# EAGLE library part MM74HC4316M (library Fairchild_By_element14_Batch_1)
Quad Analog Switch with Level Translator
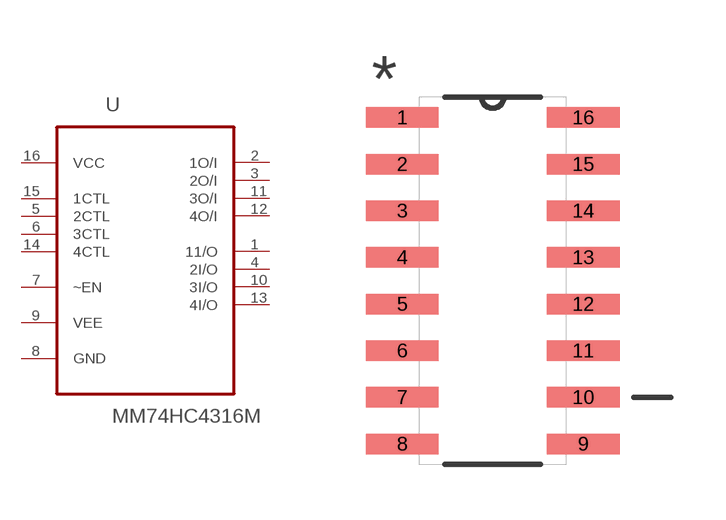
[diagram p290: symbol with the pads of SOIC127P600X175-16N; footprint SOIC127P600X175-16N]

Designator prefix U

## MM74HC4316M (MPN: MM74HC4316M; OC_FARNELL: 1013868; OC_NEWARK: -; PACKAGE: SOIC-16; SUPPLIER: Fairchild semiconductor)  [SOIC127P600X175-16N]
1  11/O
2  1O/I
3  2O/I
4  2I/O
5  2CTL  in
6  3CTL  in
7  ~EN  in
8  GND  pas
9  VEE  pwr
10  3I/O
11  3O/I
12  4O/I
13  4I/O
14  4CTL  in
15  1CTL  in
16  VCC  pwr

## Footprint SOIC127P600X175-16N (pad centres in mm)
smd 1.981 x 0.559: 1 -2.464,4.445; 2 -2.464,3.175; 3 -2.464,1.905; 4 -2.464,0.635; 5 -2.464,-0.635; 6 -2.464,-1.905; 7 -2.464,-3.175; 8 -2.464,-4.445; 9 2.464,-4.445; 10 2.464,-3.175; 11 2.464,-1.905; 12 2.464,-0.635; 13 2.464,0.635; 14 2.464,1.905; 15 2.464,3.175; 16 2.464,4.445